# Altium footprint library SPI_LCD_18Pin.PcbLib: 1 footprints
Each footprint in its own frame and in the unit in brackets; x right, y up, seen from the top. Pads: shape width x height; smd on the part's side, far side on the other; paste and mask are expansions set on the pad; w line width, h text height; cw(c..) or ccw(c..) is an arc to the next point about the centre after c.
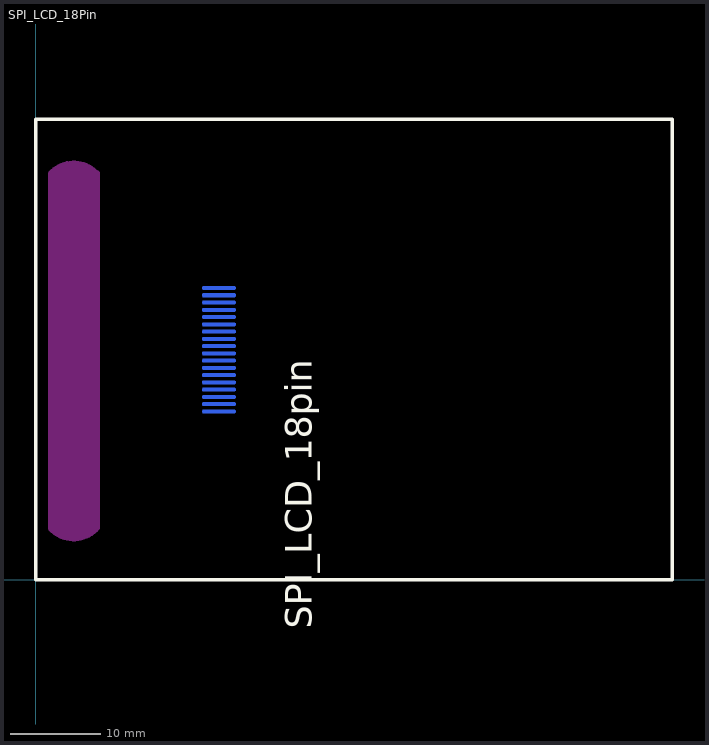
[diagram p0: the footprint, top view; thin cyan lines are the x and y axes]

## SPI_LCD_18Pin [mm] "LCD?"
pads (18):
  oct 3.7x0.4 smd far side: 1(20.17,32.175) 2(20.17,31.375) 3(20.17,30.575) 4(20.17,29.775) 5(20.17,28.975) 6(20.17,28.175) 7(20.17,27.375) 8(20.17,26.575) 9(20.17,25.775) 10(20.17,24.975) 11(20.17,24.175) 12(20.17,23.375) 13(20.17,22.575) 14(20.17,21.775) 15(20.17,20.975) 16(20.17,20.175) 17(20.17,19.375) 18(20.17,18.575)
Top Overlay:
  lines w0.4: 69.995,50.775 -0.005,50.775 -0.005,0 70.145,0 70.145,50.75
  text "SPI_LCD_18pin" at 31.419,-5.374 h5
Bottom Overlay:
  lines w0.254: 20.17,18.075 20.17,17.575 18.27,17.575 18.27,5.625 3.87,5.625 3.87,45.225 18.27,45.225 18.27,33.175 20.17,33.175 20.17,32.675
  text "1" at 20.701,33.274 h1
  text "18" at 20.701,18.034 h1
Keep-Out Layer:
  board cut-out: 6.795,5.7 6.634,5.514 6.263,5.192 5.851,4.925 5.404,4.719 4.934,4.578 4.448,4.504 3.956,4.499 3.469,4.564 2.996,4.697 2.546,4.895 2.128,5.155 1.751,5.47 1.587,5.653 1.587,44.833 1.751,45.016 2.128,45.332 2.546,45.591 2.996,45.789 3.469,45.922 3.956,45.987 4.448,45.982 4.934,45.909 5.404,45.767 5.851,45.561 6.263,45.294 6.634,44.972 6.795,44.786
Keep-Out Layer:
  lines w0.5: 6.795,44.786 ccw(c4.17,42.511) 1.587,44.833 1.587,5.653 ccw(c4.17,7.975) 6.795,5.7 6.795,44.881
3D body: height 4, standoff 0.25, extent 3.795,1.475 68.045,49.6
3D body: height 3.5, standoff 0.25, extent -0.005,6.575 3.845,43.675
3D body: height 3.5, standoff 0.25, extent -0.055,-0.1 70.17,50.85